# Altium schematic symbol library 691 221 320 0xx.SchLib: 6 symbols
Pins are listed as number, name and electrical type; pins without a type are passive.

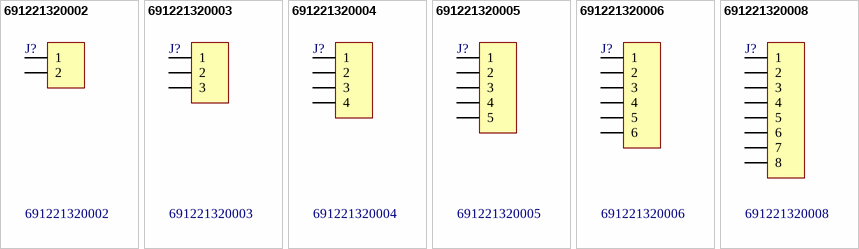
[diagram p0: symbols 691221320002 to 691221320008]

## 691221320002
designator J?
WR-TBL 45° Entry Modular with Rising Cage Clamp,Serie 2213 - 3.81 mm; Manufacturer: Würth Elektronik eiSos GmbH; ComponentLink1 Description: Manufacturer; ComponentLink2 Description: Datasheet; NoPins: 2; Created Date: 19 Novenber 2013; partNo: 691221320002; ComponentLink1URL: http://www.we-online.com; ComponentLink2URL: http://katalog.we-online.de/em/datasheet/6912213200xx.pdf; Created by: Karrer Zheng
footprint 691221320002 (3,81mm - modular - green - 55° wire entry - Cage clamp - 02p)
pins: 1, 2

## 691221320003
designator J?
WR-TBL 45° Entry Modular with Rising Cage Clamp,Serie 2213 - 3.81 mm; Manufacturer: Würth Elektronik eiSos GmbH; ComponentLink1 Description: Manufacturer; ComponentLink2 Description: Datasheet; NoPins: 3; Created Date: 19 Novenber 2013; partNo: 691221320003; ComponentLink1URL: http://www.we-online.com; ComponentLink2URL: http://katalog.we-online.de/em/datasheet/6912213200xx.pdf; Created by: Karrer Zheng
footprint 691221320003 (3,81mm - modular - green - 55° wire entry - Cage clamp - 03p)
pins: 1, 2, 3

## 691221320004
designator J?
WR-TBL 45° Entry Modular with Rising Cage Clamp,Serie 2213 - 3.81 mm; Manufacturer: Würth Elektronik eiSos GmbH; ComponentLink1 Description: Manufacturer; ComponentLink2 Description: Datasheet; NoPins: 4; Created Date: 19 Novenber 2013; partNo: 691221320004; ComponentLink1URL: http://www.we-online.com; ComponentLink2URL: http://katalog.we-online.de/em/datasheet/6912213200xx.pdf; Created by: Karrer Zheng
footprint 691221320004 (3,81mm - modular - green - 55° wire entry - Cage clamp - 04p)
pins: 1, 2, 3, 4

## 691221320005
designator J?
WR-TBL 45° Entry Modular with Rising Cage Clamp,Serie 2213 - 3.81 mm; Manufacturer: Würth Elektronik eiSos GmbH; ComponentLink1 Description: Manufacturer; ComponentLink2 Description: Datasheet; NoPins: 5; Created Date: 19 Novenber 2013; partNo: 691221320005; ComponentLink1URL: http://www.we-online.com; ComponentLink2URL: http://katalog.we-online.de/em/datasheet/6912213200xx.pdf; Created by: Karrer Zheng
footprint 691221320005 (3,81mm - modular - green - 55° wire entry - Cage clamp - 05p)
pins: 1, 2, 3, 4, 5

## 691221320006
designator J?
WR-TBL 45° Entry Modular with Rising Cage Clamp,Serie 2213 - 3.81 mm; Manufacturer: Würth Elektronik eiSos GmbH; ComponentLink1 Description: Manufacturer; ComponentLink2 Description: Datasheet; NoPins: 6; Created Date: 19 Novenber 2013; partNo: 691221320006; ComponentLink1URL: http://www.we-online.com; ComponentLink2URL: http://katalog.we-online.de/em/datasheet/6912213200xx.pdf; Created by: Karrer Zheng
footprint 691221320006 (3,81mm - modular - green - 55° wire entry - Cage clamp - 06p)
pins: 1, 2, 3, 4, 5, 6

## 691221320008
designator J?
WR-TBL 45° Entry Modular with Rising Cage Clamp,Serie 2213 - 3.81 mm; Manufacturer: Würth Elektronik eiSos GmbH; ComponentLink1 Description: Manufacturer; ComponentLink2 Description: Datasheet; NoPins: 8; Created Date: 19 Novenber 2013; partNo: 691221320008; ComponentLink1URL: http://www.we-online.com; ComponentLink2URL: http://katalog.we-online.de/em/datasheet/6912213200xx.pdf; Created by: Karrer Zheng
footprint 691221320008 (3,81mm - modular - green - 55° wire entry - Cage clamp - 08p)
pins: 1, 2, 3, 4, 5, 6, 7, 8